# Altium schematic symbol library 87264-2052.SchLib: 1 symbol
Pins are listed as number, name and electrical type; pins without a type are passive.

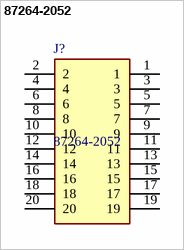
[diagram p0: symbol 87264-2052]

## 87264-2052
designator J?
Molex, 87264 2mm Pitch 20 Way 2 Row Right Angle PCB Socket, Through Hole, Solder Termination; Geometry.Height: 4.2mm; Manufacturer_Name: Molex; Manufacturer_Part_Number: 87264-2052; Mouser Part Number: 538-87264-2052; Mouser Price/Stock: https://www.mouser.co.uk/ProductDetail/Molex/87264-2052?qs=8Hiqw6lP3ak98IRWDTxD0w%3D%3D; Arrow Part Number: *; Arrow Price/Stock: *; Datasheet Link: https://www.molex.com/pdm_docs/sd/872642052_sd.pdf
footprint 872642052
pins: 1, 2, 3, 4, 5, 6, 7, 8, 9, 10, 11, 12, 13, 14, 15, 16, 17, 18, 19, 20